# EAGLE library part ADS1015_ADS1115 (library ICs)
The ADS1115 and ADS1015 4-channel breakout boards are perfect for adding high-resolution analog to digital conversion to any microprocessor-based project. These boards can run with power and logic signals between 2v to 5v, so they are compatible with all common 3.3v and 5v processors. As many of 4 of these boards can be controlled from the same 2-wire I2C bus, giving you up to 16 single-ended or 8 differential channels. A programmable gain amplifier provides up to x16 gain for small signals. These two boards are very similar, differing only in resolution and speed. The ADS1115 has higher resolution and the ADS1015 has a higher sample rate. <#ads1115-features-2974105-2> ADS1115 Features: Resolution: 16 Bits Programmable Sample Rate: 8 to 860 Samples/Second Power Supply/Logic Levels: 2.0V to 5.5V Low Current Consumption: Continuous Mode: Only 150µA Single-Shot Mode: Auto Shut-Down Internal Low-Drift Voltage Reference Internal Oscillator Internal PGA: up to x16 I2C Interface: 4-Pin-Selectable Addresses Four Single-Ended or 2 Differential Inputs Programmable Comparator <#ads1015-features-2974105-2> ADS1015 Features: Resolution: 12 Bits Programmable Sample Rate: 128 to 3300 Samples/Second Power Supply/Logic Levels: 2.0V to 5.5V Low Current Consumption: Continuous Mode: Only 150µA Single-Shot Mode: Auto Shut-Down Internal Low-Drift Voltage Reference Internal Oscillator Internal PGA: up to x16 I2C Interface: 4-Pin-Selectable Addresses Four Single-Ended or 2 Differential Inputs Programmable Comparator Information copied from: https://learn.adafruit.com/adafruit-4-channel-adc-breakouts/overview
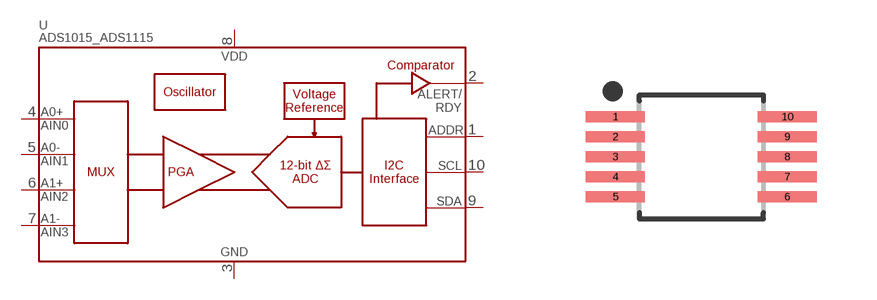
[diagram p0: symbol with the pads of SOP50P490X110-10N; footprint SOP50P490X110-10N]

Designator prefix U

## ADS1015_ADS1115  [SOP50P490X110-10N]
1  ADDR
2  ALERT/RDY
3  VSS
4  AIN0
5  AIN1
6  AIN2
7  AIN3
8  VDD
9  SDA
10  SCL

## Footprint SOP50P490X110-10N (pad centres in mm)
10-SOP, 0.50 mm pitch, 4.90 mm span, 3.00 X 3.00 X 1.10 mm body 10-pin SOP package with 0.50 mm pitch, 4.90 mm span with body size 3.00 X 3.00 X 1.10 mm
smd 1.471 x 0.28: 1 -2.15,1; 2 -2.15,0.5; 3 -2.15,0; 4 -2.15,-0.5; 5 -2.15,-1; 6 2.15,-1; 7 2.15,-0.5; 8 2.15,0; 9 2.15,0.5; 10 2.15,1